# EAGLE library part 7-SEGMENT-4DIGIT-20MM (library DuinoPeak-LED)
4 Digit 7 Segment Display This is a part for the 4-Digit 7-segment LEDs from Young Sun. Different from the Digikey LEDs, all 16 pins are used. The LONGPADS Variant is used for a test jig, but you may like it because there is more pad to solder to. If you are concerned about routing space, the standard works just fine though. Datasheets: Red <http://cdn.sparkfun.com/datasheets/Components/LED/1LEDREDCC.pdf> Yellow <http://cdn.sparkfun.com/datasheets/Components/LED/1LEDYELCC.pdf> Green <http://cdn.sparkfun.com/datasheets/Components/LED/1LEDGRNCC.pdf> Blue <http://cdn.sparkfun.com/datasheets/Components/LED/1LEDBLUCC.pdf> White <http://cdn.sparkfun.com/datasheets/Components/LED/1LEDWHTCC.pdf> SparkFun Products Raw Components 7-Segment Display - 20mm (Red) <https://www.sparkfun.com/products/11405> (COM-11405) 7-Segment Display - 20mm (Yellow) <https://www.sparkfun.com/products/11406> (COM-11406) 7-Segment Display - 20mm (Green) <https://www.sparkfun.com/products/11407> (COM-11407) 7-Segment Display - 20mm (Blue) <https://www.sparkfun.com/products/11408> (COM-11408) 7-Segment Display - 20mm (White) <https://www.sparkfun.com/products/11409> (COM-11409) Serial Controlled SparkFun OpenSegment Serial Display - 20mm (Red) <https://www.sparkfun.com/products/11644> (COM-11644) SparkFun OpenSegment Serial Display - 20mm (Yellow) <https://www.sparkfun.com/products/11645> (COM-11645) SparkFun OpenSegment Serial Display - 20mm (Green) <https://www.sparkfun.com/products/11646> (COM-11646) SparkFun OpenSegment Serial Display - 20mm (Blue) <https://www.sparkfun.com/products/11647> (COM-11647) SparkFun OpenSegment Serial Display - 20mm (White) <https://www.sparkfun.com/products/11648> (COM-11648) Other SparkFun OpenSegment Shield <https://www.sparkfun.com/products/13190> (DEV-13190)
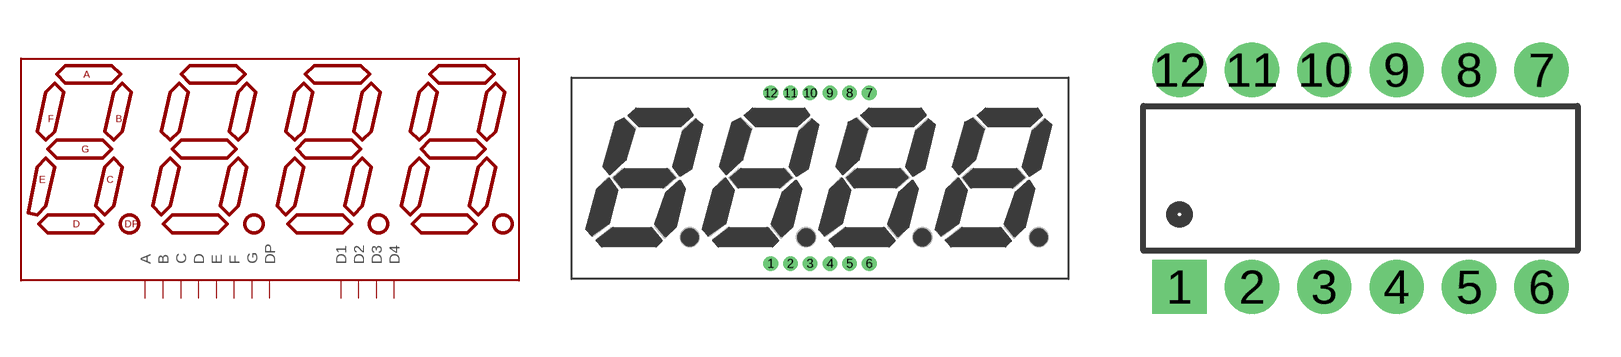
[diagram p5: symbol with the pads of 7-SEGMENT-4DIGIT-20MM; footprints 7-SEGMENT-4DIGIT-20MM, DIP12-HP-BUBBLE]

Designator prefix DISP

## 7-SEGMENT-4DIGIT-20MM-RED (PROD_ID: COMP-11449; VALUE: ATA8041ARBJ)  [7-SEGMENT-4DIGIT-20MM]
1  E
2  D
3  DP
4  C
5  G
6  D4
7  B
8  D3
9  D2
10  F
11  A
12  D1

## 7-SEGMENT-4DIGIT-20MM-HP-BUBBLE (STOREFRONT: COM-12710)  [DIP12-HP-BUBBLE]
1  D1
2  E
3  C
4  D3
5  DP
6  D4
7  G
8  D
9  F
10  D2
11  B
12  A

## 7-SEGMENT-4DIGIT-20MM-YELLOW (PROD_ID: COMP-11448; VALUE: ATA8041AY)  [7-SEGMENT-4DIGIT-20MM]
Pads as for 7-SEGMENT-4DIGIT-20MM

## 7-SEGMENT-4DIGIT-20MM-GREEN (PROD_ID: COMP-11447; VALUE: ATA8041AG)  [7-SEGMENT-4DIGIT-20MM]
Pads as for 7-SEGMENT-4DIGIT-20MM

## 7-SEGMENT-4DIGIT-20MM-BLUE (PROD_ID: COMP-11446; VALUE: ATA8041AB)  [7-SEGMENT-4DIGIT-20MM]
Pads as for 7-SEGMENT-4DIGIT-20MM

## 7-SEGMENT-4DIGIT-20MM-WHITE (PROD_ID: COMP-11445; VALUE: ATA8041AW)  [7-SEGMENT-4DIGIT-20MM]
Pads as for 7-SEGMENT-4DIGIT-20MM

## Footprint 7-SEGMENT-4DIGIT-20MM (pad centres in mm)
drill 0.9 pad 1.88: 1 -6.35,-10.998; 2 -3.81,-10.998; 3 -1.27,-10.998; 4 1.27,-10.998; 5 3.81,-10.998; 6 6.35,-10.998; 7 6.35,10.998; 8 3.81,10.998; 9 1.27,10.998; 10 -1.27,10.998; 11 -3.81,10.998; 12 -6.35,10.998

## Footprint DIP12-HP-BUBBLE (pad centres in mm)
drill 0.864 pad 1.905 square: 1 -6.35,-3.81
drill 0.864 pad 1.905: 2 -3.81,-3.81; 3 -1.27,-3.81; 4 1.27,-3.81; 5 3.81,-3.81; 6 6.35,-3.81; 7 6.35,3.81; 8 3.81,3.81; 9 1.27,3.81; 10 -1.27,3.81; 11 -3.81,3.81; 12 -6.35,3.81